# Altium footprint library BU01.PcbLib: 1 footprints
Each footprint in its own frame and in the unit in brackets; x right, y up, seen from the top. Pads: shape width x height; smd on the part's side, far side on the other; paste and mask are expansions set on the pad; w line width, h text height; cw(c..) or ccw(c..) is an arc to the next point about the centre after c.
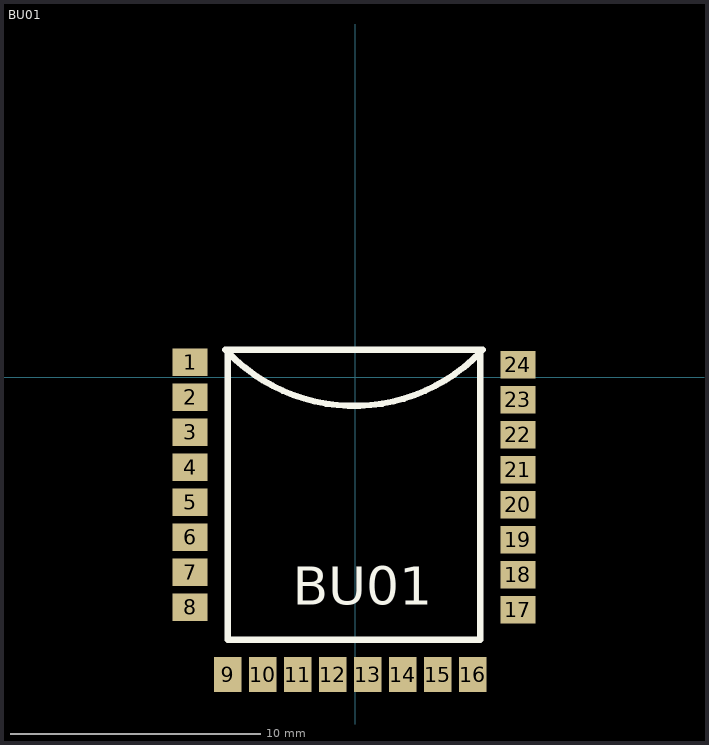
[diagram p0: the footprint, top view; thin cyan lines are the x and y axes]

## BU01 [mm]
height 3
pads (24):
  rect 1.4x1.1 smd: 1(-6.6,0.6) 2(-6.6,-0.8) 3(-6.6,-2.2) 4(-6.6,-3.6) 5(-6.6,-5) 6(-6.6,-6.4) 7(-6.6,-7.8) 8(-6.6,-9.2) 17(6.5,-9.3) 18(6.5,-7.9) 19(6.5,-6.5) 20(6.5,-5.1) 21(6.5,-3.7) 22(6.5,-2.3) 23(6.5,-0.9) 24(6.5,0.5)
  rect 1.1x1.4 smd: 9(-5.1,-11.9) 10(-3.7,-11.9) 11(-2.3,-11.9) 12(-0.9,-11.9) 13(0.5,-11.9) 14(1.9,-11.9) 15(3.3,-11.9) 16(4.7,-11.9)
Top Overlay:
  lines w0.254: -5.2,1.1 5.1,1.1 ; -5.097,1.003 ccw(c-0.047,5.851) 5,1 5,-10.5 -5.1,-10.5 -5.1,1.1 5,1.1
  text "BU01" at -2.5,-9.1 h1.52